# EAGLE library part IRIDIUM_9603N (library Qwiic_Iridium_9603N)
Iridium 9603N with two McMaster 95117A411 press-fit nuts
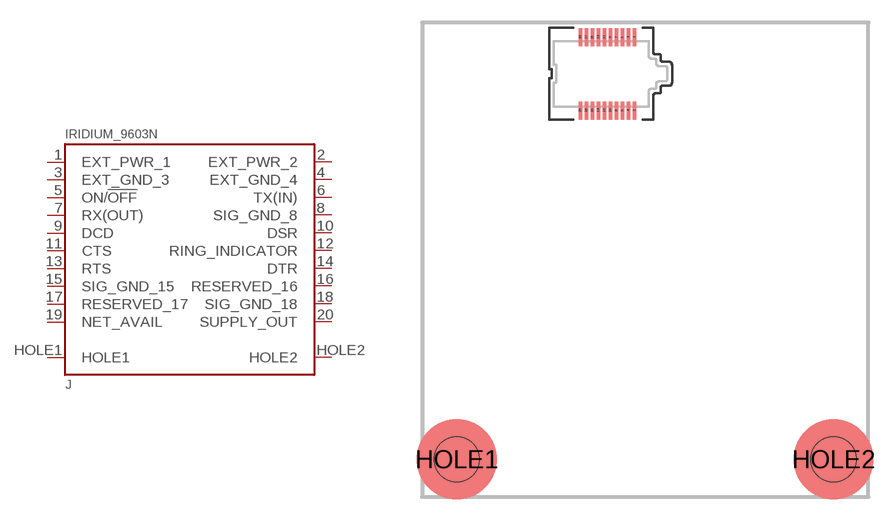
[diagram p2: symbol with the pads of IRIDIUM_9603N; footprint IRIDIUM_9603N]

Designator prefix J

## IRIDIUM_9603N  [IRIDIUM_9603N]
1  EXT_PWR_1  pwr
2  EXT_PWR_2  pwr
3  EXT_GND_3  pwr
4  EXT_GND_4  pwr
5  ON/!OFF!  in
6  TX(IN)  in
7  RX(OUT)  out
8  SIG_GND_8  pwr
9  DCD  out
10  DSR  out
11  CTS  out
12  RING_INDICATOR  out
13  RTS  in
14  DTR  in
15  SIG_GND_15  pwr
16  RESERVED_16  nc
17  RESERVED_17  nc
18  SIG_GND_18  pwr
19  NET_AVAIL  out
20  SUPPLY_OUT  out
HOLE1  HOLE1  pwr
HOLE2  HOLE2  pwr

## Footprint IRIDIUM_9603N (pad centres in mm)
0.4mm[.016] SOCKET STRIP ASSEMBLY.
smd 0.23 x 1.2: 1 11.8,28.035; 2 11.8,23.165; 3 11.4,28.035; 4 11.4,23.165; 5 11,28.035; 6 11,23.165; 7 10.6,28.035; 8 10.6,23.165; 9 10.2,28.035; 10 10.2,23.165; 11 9.8,28.035; 12 9.8,23.165; 13 9.4,28.035; 14 9.4,23.165; 15 9,28.035; 16 9,23.165; 17 8.6,28.035; 18 8.6,23.165; 19 8.2,28.035; 20 8.2,23.165
smd 5.3 x 5.3: HOLE1 0,0; HOLE2 25,0
hole 3 at 0,0
hole 3 at 25,0